# EAGLE library part MLX90316LDC-BCS-000-SP (library SamacSys_Parts)
Board Mount Motion & Position Sensors Triaxis Programmable Rotary Position Sensor feat. Dual Matched Ratiometric Analog & PWM Outputs (Gen. I ) Source: Datasheet <https://mel-prd-cdn.azureedge.net/-/media/files/documents/datasheets/mlx90316-datasheet-melexis.pdf>
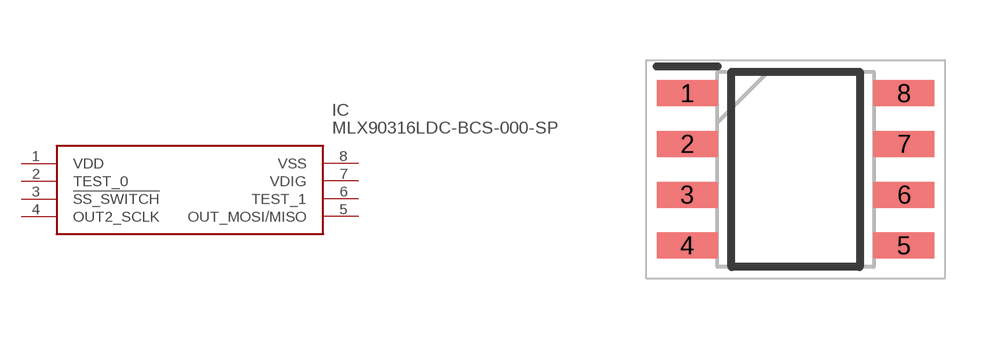
[diagram p0: symbol with the pads of SOIC127P600X172-8N; footprint SOIC127P600X172-8N]

Designator prefix IC

## MLX90316LDC-BCS-000-SP (Description: Board Mount Motion & Position Sensors Triaxis Programmable Rotary Position Sensor feat. Dual Matched Ratiometric Analog & PWM Outputs (Gen. I ); Height: 1.72mm; Manufacturer_Name: Melexis; Manufacturer_Part_Number: MLX90316LDC-BCS-000-SP; Mouser_Part_Number: 482-90316LDCBCS000SP; Mouser_Price-Stock: https://www.mouser.co.uk/ProductDetail/Melexis/MLX90316LDC-BCS-000-SP?qs=KuGPmAKtFKULB92ItQn%252BIA%3D%3D)  [SOIC127P600X172-8N]
1  VDD
2  TEST_0
3  !SS_SWITCH
4  OUT2_SCLK
5  OUT_MOSI/MISO
6  TEST_1
7  VDIG
8  VSS

## Footprint SOIC127P600X172-8N (pad centres in mm)
SOIC-8
smd 1.525 x 0.65: 1 -2.712,1.905; 2 -2.712,0.635; 3 -2.712,-0.635; 4 -2.712,-1.905; 5 2.712,-1.905; 6 2.712,-0.635; 7 2.712,0.635; 8 2.712,1.905